# EAGLE library part PINS_20 (library act-global-nolan)
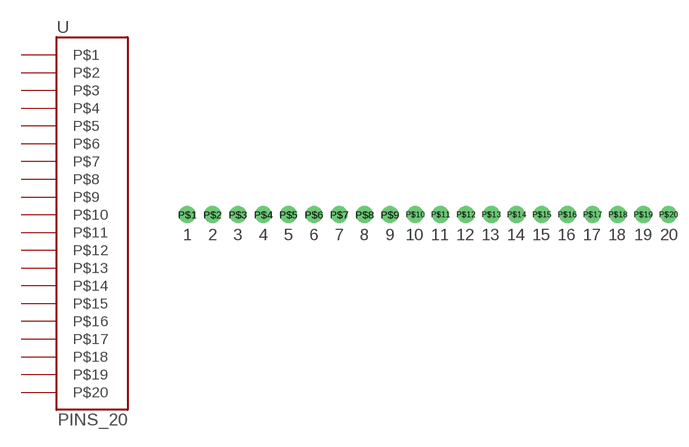
[diagram p7: symbol with the pads of PINS_20_3MM81; footprint PINS_20_3MM81]

Designator prefix -

## PINS_203.81MM  [PINS_20_3MM81]
P$1  P$1
P$2  P$2
P$3  P$3
P$4  P$4
P$5  P$5
P$6  P$6
P$7  P$7
P$8  P$8
P$9  P$9
P$10  P$10
P$11  P$11
P$12  P$12
P$13  P$13
P$14  P$14
P$15  P$15
P$16  P$16
P$17  P$17
P$18  P$18
P$19  P$19
P$20  P$20

## Footprint PINS_20_3MM81 (pad centres in mm)
drill 1.3 pad 2.54: P$1 -36.2,0; P$2 -32.39,0; P$3 -28.58,0; P$4 -24.77,0; P$5 -20.96,0; P$6 -17.15,0; P$7 -13.34,0; P$8 -9.53,0; P$9 -5.72,0; P$10 -1.91,0; P$11 1.9,0; P$12 5.71,0; P$13 9.52,0; P$14 13.33,0; P$15 17.14,0; P$16 20.95,0; P$17 24.76,0; P$18 28.57,0; P$19 32.38,0; P$20 36.19,0